# EAGLE library part DAC7568ICPW (library texas-instruments)
IC DAC 12BIT SRL 225KSPS 16TSSOP
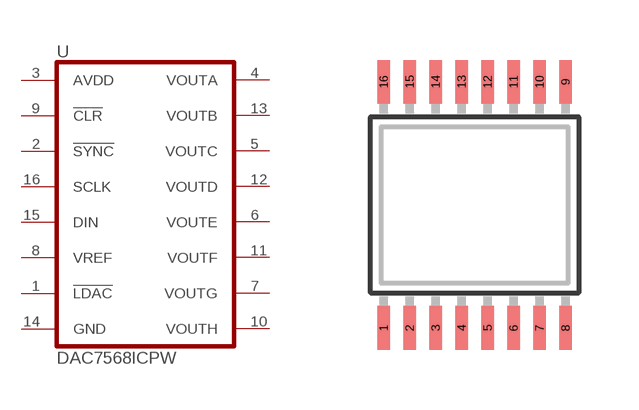
[diagram p23: symbol with the pads of TSSOP16; footprint TSSOP16]

Designator prefix U

## DAC7568ICPW (P1I: o)  [TSSOP16]
1  !LDAC  pas
2  !SYNC!  in
3  AVDD  pwr
4  VOUTA  out
5  VOUTC  out
6  VOUTE  out
7  VOUTG  out
8  VREF  pas
9  !CLR  pas
10  VOUTH  out
11  VOUTF  out
12  VOUTD  out
13  VOUTB  out
14  GND  pwr
15  DIN  in
16  SCLK  in

## Footprint TSSOP16 (pad centres in mm)
Thin Shrink Small Outline Plastic 16
smd 0.31 x 1.1: 1 -2.275,-3.08; 2 -1.625,-3.08; 3 -0.975,-3.08; 4 -0.325,-3.08; 5 0.325,-3.08; 6 0.975,-3.08; 7 1.625,-3.08; 8 2.275,-3.08; 9 2.275,3.08; 10 1.625,3.08; 11 0.975,3.08; 12 0.325,3.08; 13 -0.325,3.08; 14 -0.975,3.08; 15 -1.625,3.08; 16 -2.275,3.08